# Altium schematic symbol library Schlib2.SchLib: 2 symbols
Pins are listed as number, name and electrical type; pins without a type are passive.

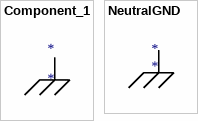
[diagram p0: symbols Component_1 to NeutralGND]

## Component_1
designator *
pins: 1

## NeutralGND
designator *
pins: 1